# EAGLE library part PIE_GPIO_ARRAY (library SynthyComponents v13)
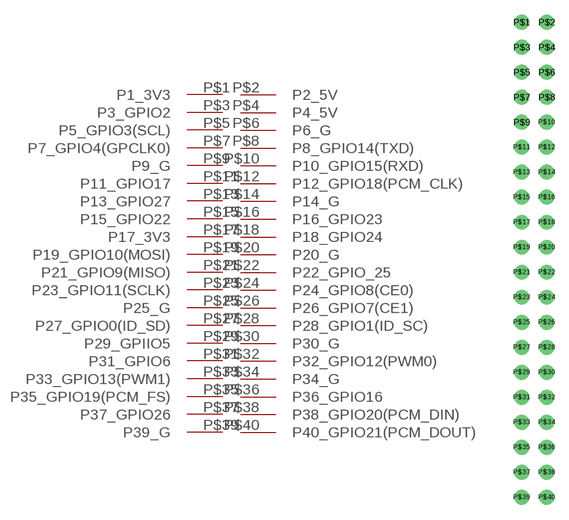
[diagram p0: symbol with the pads of PIE_GPIO_BLOCK_FOOTPRINT; footprint PIE_GPIO_BLOCK_FOOTPRINT]

Designator prefix -

## PIE_GPIO_ARRAY  [PIE_GPIO_BLOCK_FOOTPRINT]
P$1  P1_3V3
P$2  P2_5V
P$3  P3_GPIO2
P$4  P4_5V
P$5  P5_GPIO3(SCL)
P$6  P6_G
P$7  P7_GPIO4(GPCLK0)
P$8  P8_GPIO14(TXD)
P$9  P9_G
P$10  P10_GPIO15(RXD)
P$11  P11_GPIO17
P$12  P12_GPIO18(PCM_CLK)
P$13  P13_GPIO27
P$14  P14_G
P$15  P15_GPIO22
P$16  P16_GPIO23
P$17  P17_3V3
P$18  P18_GPIO24
P$19  P19_GPIO10(MOSI)
P$20  P20_G
P$21  P21_GPIO9(MISO)
P$22  P22_GPIO_25
P$23  P23_GPIO11(SCLK)
P$24  P24_GPIO8(CE0)
P$25  P25_G
P$26  P26_GPIO7(CE1)
P$27  P27_GPIO0(ID_SD)
P$28  P28_GPIO1(ID_SC)
P$29  P29_GPIIO5
P$30  P30_G
P$31  P31_GPIO6
P$32  P32_GPIO12(PWM0)
P$33  P33_GPIO13(PWM1)
P$34  P34_G
P$35  P35_GPIO19(PCM_FS)
P$36  P36_GPIO16
P$37  P37_GPIO26
P$38  P38_GPIO20(PCM_DIN)
P$39  P39_G
P$40  P40_GPIO21(PCM_DOUT)

## Footprint PIE_GPIO_BLOCK_FOOTPRINT (pad centres in mm)
drill 1: P$1 0,0; P$2 2.54,0; P$3 0,-2.54; P$4 2.54,-2.54; P$5 0,-5.08; P$6 2.54,-5.08; P$7 0,-7.62; P$8 2.54,-7.62; P$9 0,-10.16; P$10 2.54,-10.16; P$11 0,-12.7; P$12 2.54,-12.7; P$13 0,-15.24; P$14 2.54,-15.24; P$15 0,-17.78; P$16 2.54,-17.78; P$17 0,-20.32; P$18 2.54,-20.32; P$19 0,-22.86; P$20 2.54,-22.86; P$21 0,-25.4; P$22 2.54,-25.4; P$23 0,-27.94; P$24 2.54,-27.94; P$25 0,-30.48; P$26 2.54,-30.48; P$27 0,-33.02; P$28 2.54,-33.02; P$29 0,-35.56; P$30 2.54,-35.56; P$31 0,-38.1; P$32 2.54,-38.1; P$33 0,-40.64; P$34 2.54,-40.64; P$35 0,-43.18; P$36 2.54,-43.18; P$37 0,-45.72; P$38 2.54,-45.72; P$39 0,-48.26; P$40 2.54,-48.26